# EAGLE library part 74HC161 (library harrison)
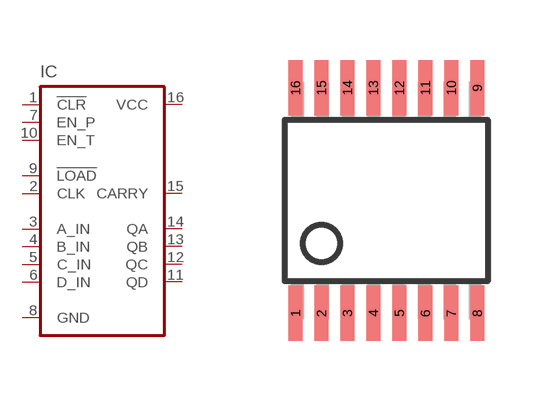
[diagram p34: symbol with the pads of TSSOP-16; footprint TSSOP-16]

Designator prefix IC

## 74HC161  [TSSOP-16]
1  !CLR!  in
2  CLK  in
3  A_IN  in
4  B_IN  in
5  C_IN  in
6  D_IN  in
7  EN_P  in
8  GND  pwr
9  !LOAD!  nc
10  EN_T  in
11  QD  out
12  QC  out
13  QB  out
14  QA  out
15  CARRY  out
16  VCC  pwr

## Footprint TSSOP-16 (pad centres in mm)
smd 0.348 x 1.397: 1 -2.273,-2.814; 2 -1.623,-2.815; 3 -0.973,-2.815; 4 -0.323,-2.815; 5 0.327,-2.815; 6 0.977,-2.815; 7 1.627,-2.815; 8 2.277,-2.815; 9 2.277,2.825; 10 1.627,2.825; 11 0.977,2.825; 12 0.327,2.825; 13 -0.323,2.825; 14 -0.973,2.825; 15 -1.623,2.825; 16 -2.273,2.825